# Altium schematic symbol library Coil_drosel.SchLib: 1 symbol
Pins are listed as number, name and electrical type; pins without a type are passive.

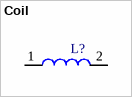
[diagram p0: symbol Coil]

## Coil
designator L?
footprint Coil_drosel
footprint 30A_10uH
footprint NR4030
pins: 1, 2